# Altium footprint library HDR1X25.PcbLib: 1 footprints
Each footprint in its own frame and in the unit in brackets; x right, y up, seen from the top. Pads: shape width x height; smd on the part's side, far side on the other; paste and mask are expansions set on the pad; w line width, h text height; cw(c..) or ccw(c..) is an arc to the next point about the centre after c.
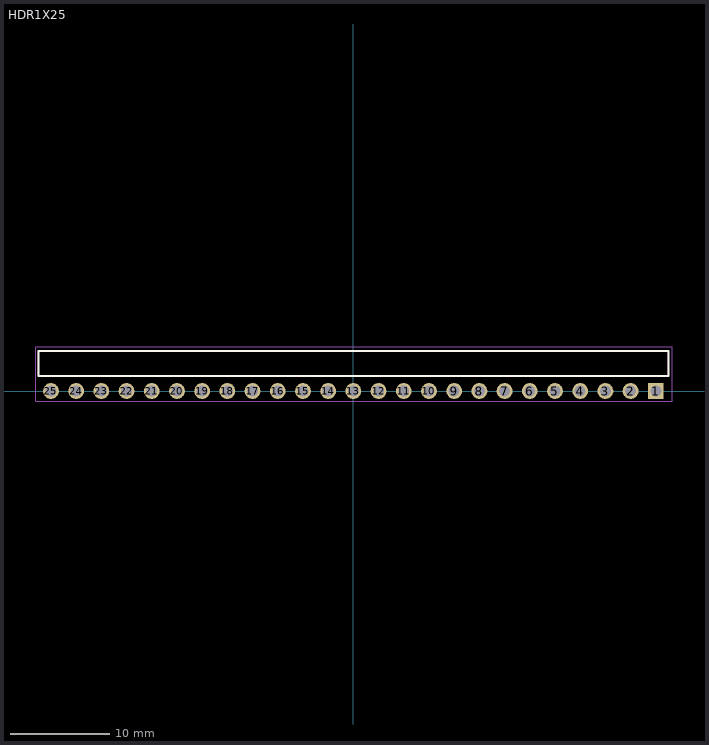
[diagram p0: the footprint, top view; thin cyan lines are the x and y axes]

## HDR1X25 [mm]
pads (25):
  rect 1.6x1.6 hole 1.1: 1(30.48,0)
  round 1.6 hole 1.1: 2(27.94,0) 3(25.4,0) 4(22.86,0) 5(20.32,0) 6(17.78,0) 7(15.24,0) 8(12.7,0) 9(10.16,0) 10(7.62,0) 11(5.08,0) 12(2.54,0) 13(0,0) 14(-2.54,0) 15(-5.08,0) 16(-7.62,0) 17(-10.16,0) 18(-12.7,0) 19(-15.24,0) 20(-17.78,0) 21(-20.32,0) 22(-22.86,0) 23(-25.4,0) 24(-27.94,0) 25(-30.48,0)
Top Overlay:
  lines w0.2: -31.75,1.5 31.75,1.5 31.75,4.04 -31.75,4.04 -31.75,1.5
Mechanical 13:
  lines w0.1: -31.75,1.5 -31.75,4.04 31.75,4.04 31.75,1.5 -31.75,1.5
Mechanical 15:
  lines w0.1: -32.004,-1.016 32.131,-1.016 32.131,4.445 -32.004,4.445 -32.004,-1.016
3D body: height 2.56, standoff -2.99, extent -24.13,-0.32 31.75,10.04
3D body: height 2.56, standoff -2.98, extent -31.75,-0.32 -24.13,10.04